# Altium integrated library IND.IntLib: 7 symbols
Pins are listed as number, name and electrical type; pins without a type are passive.

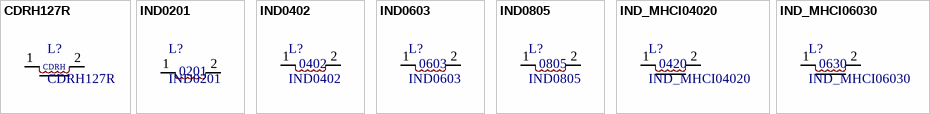
[diagram p0: symbols CDRH127R to IND_MHCI06030]

## CDRH127R
designator L?
footprint CDRH127R (Precision Wire Wound Inductor, 2-Leads, Body 12.30x12.30mm, IPC Low Density)
pins: 1, 2
text: CDRH

## IND0201
designator L?
footprint IND0201 (Chip Inductor, 2-Leads, Body 0.6x0.3mm, IPC High Density)
pins: 1, 2
text: 0201

## IND0402
designator L?
footprint IND0402 (Chip Inductor, 2-Leads, Body 1.0x0.5mm, IPC High Density)
pins: 1, 2
text: 0402

## IND0603
designator L?
footprint IND0603 (Chip Inductor, 2-Leads, Body 1.6x0.8mm, IPC Medium Density)
pins: 1, 2
text: 0603

## IND0805
designator L?
footprint IND0805 (Chip Inductor, 2-Leads, Body 2.0x1.3mm, IPC Medium Density)
pins: 1, 2
text: 0805

## IND_MHCI04020
designator L?
footprint IND_MHCI04020 (Precision Wire Wound Inductor, 2-Leads, Body 4.6x4.1mm, IPC Medium Density)
pins: 1, 2
text: 0420

## IND_MHCI06030
designator L?
footprint IND_MHCI06030 (Precision Wire Wound Inductor, 2-Leads, Body 7.3x6.6mm, IPC Medium Density)
pins: 1, 2
text: 0630